# EAGLE library part MSP432P401RIPZR (library untitled)
Low-Power and High Performance 32-Bit ARM Cortex M4F With 256KB Flash and 64KB RAM 100-LQFP -40 to 85
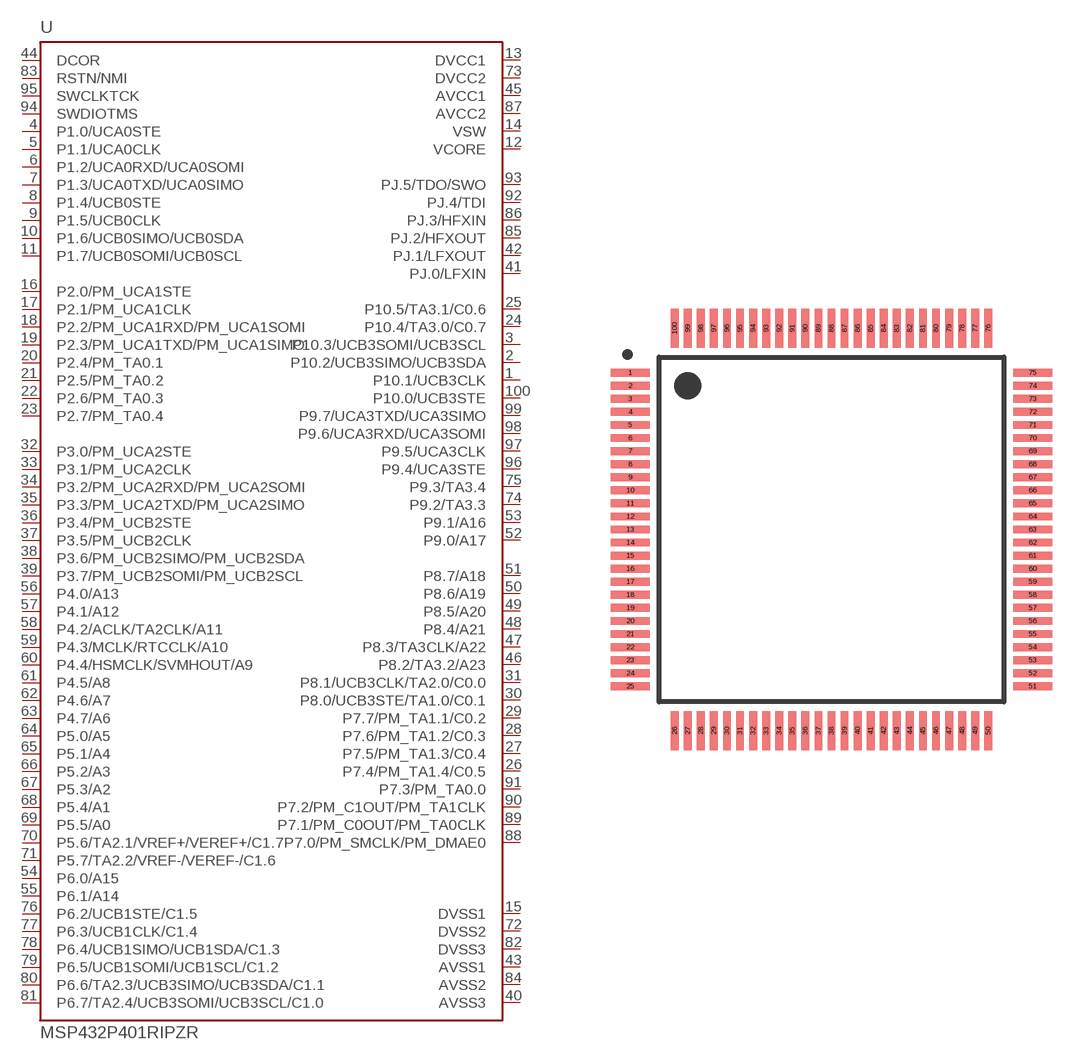
[diagram p0: symbol with the pads of QFP50P1600X1600X160-100N; footprint QFP50P1600X1600X160-100N]

Designator prefix U

## MSP432P401RIPZR (AVAILABILITY: Unavailable; DESCRIPTION: Low-Power and High Performance 32-Bit ARM Cortex M4F With 256KB Flash and 64KB RAM 100-LQFP -40 to 85; MF: Texas Instruments; MP: MSP432P401RIPZR; PACKAGE: LQFP-100 Texas Instruments; PRICE: None)  [QFP50P1600X1600X160-100N]
1  P10.1/UCB3CLK
2  P10.2/UCB3SIMO/UCB3SDA
3  P10.3/UCB3SOMI/UCB3SCL
4  P1.0/UCA0STE
5  P1.1/UCA0CLK
6  P1.2/UCA0RXD/UCA0SOMI
7  P1.3/UCA0TXD/UCA0SIMO
8  P1.4/UCB0STE
9  P1.5/UCB0CLK
10  P1.6/UCB0SIMO/UCB0SDA
11  P1.7/UCB0SOMI/UCB0SCL
12  VCORE  pwr
13  DVCC1  pwr
14  VSW  pwr
15  DVSS1  pwr
16  P2.0/PM_UCA1STE
17  P2.1/PM_UCA1CLK
18  P2.2/PM_UCA1RXD/PM_UCA1SOMI
19  P2.3/PM_UCA1TXD/PM_UCA1SIMO
20  P2.4/PM_TA0.1
21  P2.5/PM_TA0.2
22  P2.6/PM_TA0.3
23  P2.7/PM_TA0.4
24  P10.4/TA3.0/C0.7
25  P10.5/TA3.1/C0.6
26  P7.4/PM_TA1.4/C0.5
27  P7.5/PM_TA1.3/C0.4
28  P7.6/PM_TA1.2/C0.3
29  P7.7/PM_TA1.1/C0.2
30  P8.0/UCB3STE/TA1.0/C0.1
31  P8.1/UCB3CLK/TA2.0/C0.0
32  P3.0/PM_UCA2STE
33  P3.1/PM_UCA2CLK
34  P3.2/PM_UCA2RXD/PM_UCA2SOMI
35  P3.3/PM_UCA2TXD/PM_UCA2SIMO
36  P3.4/PM_UCB2STE
37  P3.5/PM_UCB2CLK
38  P3.6/PM_UCB2SIMO/PM_UCB2SDA
39  P3.7/PM_UCB2SOMI/PM_UCB2SCL
40  AVSS3  pwr
41  PJ.0/LFXIN
42  PJ.1/LFXOUT
43  AVSS1  pwr
44  DCOR  in
45  AVCC1  pwr
46  P8.2/TA3.2/A23
47  P8.3/TA3CLK/A22
48  P8.4/A21
49  P8.5/A20
50  P8.6/A19
51  P8.7/A18
52  P9.0/A17
53  P9.1/A16
54  P6.0/A15
55  P6.1/A14
56  P4.0/A13
57  P4.1/A12
58  P4.2/ACLK/TA2CLK/A11
59  P4.3/MCLK/RTCCLK/A10
60  P4.4/HSMCLK/SVMHOUT/A9
61  P4.5/A8
62  P4.6/A7
63  P4.7/A6
64  P5.0/A5
65  P5.1/A4
66  P5.2/A3
67  P5.3/A2
68  P5.4/A1
69  P5.5/A0
70  P5.6/TA2.1/VREF+/VEREF+/C1.7
71  P5.7/TA2.2/VREF-/VEREF-/C1.6
72  DVSS2  pwr
73  DVCC2  pwr
74  P9.2/TA3.3
75  P9.3/TA3.4
76  P6.2/UCB1STE/C1.5
77  P6.3/UCB1CLK/C1.4
78  P6.4/UCB1SIMO/UCB1SDA/C1.3
79  P6.5/UCB1SOMI/UCB1SCL/C1.2
80  P6.6/TA2.3/UCB3SIMO/UCB3SDA/C1.1
81  P6.7/TA2.4/UCB3SOMI/UCB3SCL/C1.0
82  DVSS3  pwr
83  RSTN/NMI
84  AVSS2  pwr
85  PJ.2/HFXOUT
86  PJ.3/HFXIN
87  AVCC2  pwr
88  P7.0/PM_SMCLK/PM_DMAE0
89  P7.1/PM_C0OUT/PM_TA0CLK
90  P7.2/PM_C1OUT/PM_TA1CLK
91  P7.3/PM_TA0.0
92  PJ.4/TDI
93  PJ.5/TDO/SWO
94  SWDIOTMS
95  SWCLKTCK
96  P9.4/UCA3STE
97  P9.5/UCA3CLK
98  P9.6/UCA3RXD/UCA3SOMI
99  P9.7/UCA3TXD/UCA3SIMO
100  P10.0/UCB3STE

## Footprint QFP50P1600X1600X160-100N (pad centres in mm)
smd 1.5 x 0.3: 1 -7.7,6; 2 -7.7,5.5; 3 -7.7,5; 4 -7.7,4.5; 5 -7.7,4; 6 -7.7,3.5; 7 -7.7,3; 8 -7.7,2.5; 9 -7.7,2; 10 -7.7,1.5; 11 -7.7,1; 12 -7.7,0.5; 13 -7.7,0; 14 -7.7,-0.5; 15 -7.7,-1; 16 -7.7,-1.5; 17 -7.7,-2; 18 -7.7,-2.5; 19 -7.7,-3; 20 -7.7,-3.5; 21 -7.7,-4; 22 -7.7,-4.5; 23 -7.7,-5; 24 -7.7,-5.5; 25 -7.7,-6; 51 7.7,-6; 52 7.7,-5.5; 53 7.7,-5; 54 7.7,-4.5; 55 7.7,-4; 56 7.7,-3.5; 57 7.7,-3; 58 7.7,-2.5; 59 7.7,-2; 60 7.7,-1.5; 61 7.7,-1; 62 7.7,-0.5; 63 7.7,0; 64 7.7,0.5; 65 7.7,1; 66 7.7,1.5; 67 7.7,2; 68 7.7,2.5; 69 7.7,3; 70 7.7,3.5; 71 7.7,4; 72 7.7,4.5; 73 7.7,5; 74 7.7,5.5; 75 7.7,6
smd 0.3 x 1.5: 26 -6,-7.7; 27 -5.5,-7.7; 28 -5,-7.7; 29 -4.5,-7.7; 30 -4,-7.7; 31 -3.5,-7.7; 32 -3,-7.7; 33 -2.5,-7.7; 34 -2,-7.7; 35 -1.5,-7.7; 36 -1,-7.7; 37 -0.5,-7.7; 38 0,-7.7; 39 0.5,-7.7; 40 1,-7.7; 41 1.5,-7.7; 42 2,-7.7; 43 2.5,-7.7; 44 3,-7.7; 45 3.5,-7.7; 46 4,-7.7; 47 4.5,-7.7; 48 5,-7.7; 49 5.5,-7.7; 50 6,-7.7; 76 6,7.7; 77 5.5,7.7; 78 5,7.7; 79 4.5,7.7; 80 4,7.7; 81 3.5,7.7; 82 3,7.7; 83 2.5,7.7; 84 2,7.7; 85 1.5,7.7; 86 1,7.7; 87 0.5,7.7; 88 0,7.7; 89 -0.5,7.7; 90 -1,7.7; 91 -1.5,7.7; 92 -2,7.7; 93 -2.5,7.7; 94 -3,7.7; 95 -3.5,7.7; 96 -4,7.7; 97 -4.5,7.7; 98 -5,7.7; 99 -5.5,7.7; 100 -6,7.7